# EAGLE library part RT8289GSP (library RoboJackets-PowerICs)
Buck Switching Regulator IC Positive Adjustable 1.222V 1 Output 5A 8-SOIC (0.154", 3.90mm Width) Exposed Pad Datasheet <https://www.richtek.com/assets/product_file/RT8289/DS8289-02.pdf>
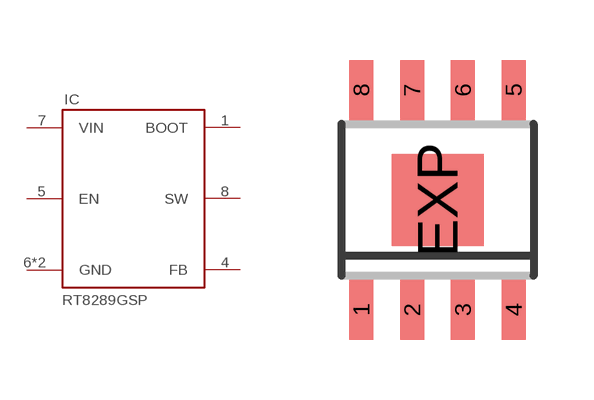
[diagram p6: symbol with the pads of SOIC8_EP; footprint SOIC8_EP]

Designator prefix IC

## RT8289GSP (DKPN: 1028-1046-1-ND)  [SOIC8_EP]
1  BOOT
4  FB
5  EN
6  GND  pwr
7  VIN  pwr
8  SW  pwr
EXP  GND  pwr

## Footprint SOIC8_EP (pad centres in mm)
SOIC-8 CASE 751-07 Source: http://www.onsemi.com/pub/Collateral/MC34164-D.PDF D (R-PDSO-G8)PLATIC SMALL-OUTLINE PACKAGE Source: http://focus.ti.com/lit/ds/symlink/tlc27l2.pdf
smd 0.6 x 1.5: 1 -1.905,-2.75; 2 -0.635,-2.75; 3 0.635,-2.75; 4 1.905,-2.75; 5 1.905,2.75; 6 0.635,2.75; 7 -0.635,2.75; 8 -1.905,2.75
smd 2.3 x 2.3: EXP 0,0